# Altium schematic symbol library TCCH-80+.SchLib: 1 symbol
Pins are listed as number, name and electrical type; pins without a type are passive.

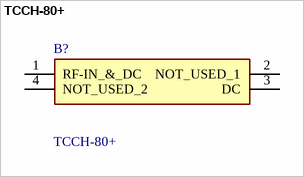
[diagram p0: symbol TCCH-80+]

## TCCH-80+
designator B?
RF Choke; Manufacturer_Name: Mini-Circuits; Geometry.Height: 3.81mm; Mouser Part Number: 139-TCCH-80; Mouser Price/Stock: https://www.mouser.co.uk/ProductDetail/Mini-Circuits/TCCH-80%2b?qs=xZ%2FP%252Ba9zWqbIZgt27nGgHg%3D%3D; Manufacturer_Part_Number: TCCH-80+; Datasheet Link: https://www.minicircuits.com/pdfs/TCCH-80+.pdf
footprint TCCH80
pins: 1 RF-IN_&_DC, 2 NOT_USED_1, 3 DC, 4 NOT_USED_2